# Altium integrated library IR Discrete MOSFET - Power.IntLib: 893 symbols (part 10 of 14)
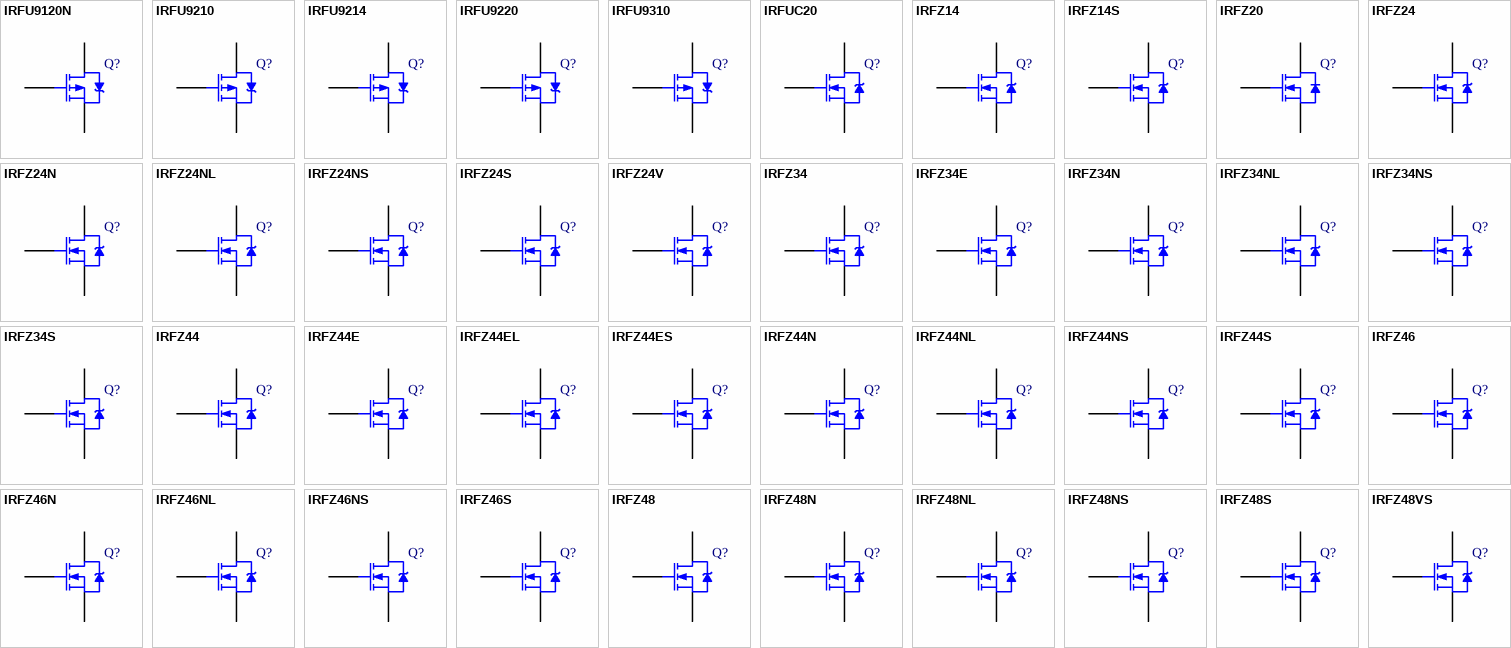
[diagram p32: symbols IRFU9120N to IRFZ48VS]

## IRFZ48N
designator Q?
HEXFET Power MOSFET; Note: Pin 2 is electrically connected to pin 4.; Published: 8-Jun-2000; LatestRevisionDate: 17-Jul-2002; LatestRevisionNote: Re-released for DXP Platform.; DatasheetVersion: Aug-1997; PackageVersion: Feb-1997; PackageReference: TO-220AB; Publisher: Altium Limited; PackageDescription: TO, Thru-Hole, Vertical, Heatsink Mounted; 3 In-Line Leads; Pitch 2.54 mm; ComponentLink1Description: Manufacturer Link; ComponentLink1URL: http://www.irf.com/; ComponentLink2Description: Datasheet; ComponentLink2URL: http://www.irf.com/product-info/datasheets/data/irfz48n.pdf
footprint TO-220AB (TO, Thru-Hole, Vertical, Heatsink Mounted; 3 In-Line Leads; Pitch 2.54 mm)
simulation model IRFZ48N (SUBCKT)
pins: 1 G, 2 D, 3 S

## IRFZ48NL
designator Q?
HEXFET Power MOSFET; Note: Pin 2 is electrically connected to pin 4.; Published: 8-Jun-2000; LatestRevisionDate: 17-Jul-2002; LatestRevisionNote: Re-released for DXP Platform.; DatasheetVersion: Aug-1997; PackageReference: TO-262; Publisher: Altium Limited; PackageDescription: TO, Thru-Hole, Vertical, Heatsink Mounted; 3 In-Line Leads; Pitch 2.54 mm; ComponentLink1Description: Manufacturer Link; ComponentLink1URL: http://www.irf.com/; ComponentLink2Description: Datasheet; ComponentLink2URL: http://www.irf.com/product-info/datasheets/data/irfz48ns.pdf
footprint TO-262 (TO, Thru-Hole, Vertical, Heatsink Mounted; 3 In-Line Leads; Pitch 2.54 mm)
pins: 1 G, 2 D, 3 S

## IRFZ48NS
designator Q?
HEXFET Power MOSFET; Published: 8-Jun-2000; LatestRevisionDate: 17-Jul-2002; LatestRevisionNote: Re-released for DXP Platform.; DatasheetVersion: Aug-1997; PackageReference: D2PAK; Publisher: Altium Limited; PackageDescription: D2-PAK/TO-263-AB; 3 Leads (1 Cropped); Body 15.5 (inc. leads) x 10.5 mm (LxW max); ComponentLink1Description: Manufacturer Link; ComponentLink1URL: http://www.irf.com/; ComponentLink2Description: Datasheet; ComponentLink2URL: http://www.irf.com/product-info/datasheets/data/irfz48ns.pdf
footprint D2PAK (D2-PAK/TO-263-AB; 3 Leads (1 Cropped); Body 15.5 (inc. leads) x 10.5 mm (LxW max))
simulation model IRFZ48NS (SUBCKT)
pins: 1 G, 2 D, 3 S

## IRFZ48S
designator Q?
HEXFET N-Channel Power MOSFET; Published: 8-Jun-2000; LatestRevisionDate: 17-Jul-2002; LatestRevisionNote: Re-released for DXP Platform.; DatasheetVersion: Aug-1997; PackageReference: D2PAK; Publisher: Altium Limited; PackageDescription: D2-PAK/TO-263-AB; 3 Leads (1 Cropped); Body 15.5 (inc. leads) x 10.5 mm (LxW max); ComponentLink1Description: Manufacturer Link; ComponentLink1URL: http://www.irf.com/; ComponentLink2Description: Datasheet; ComponentLink2URL: http://www.irf.com/product-info/datasheets/data/irfz48s.pdf
footprint D2PAK (D2-PAK/TO-263-AB; 3 Leads (1 Cropped); Body 15.5 (inc. leads) x 10.5 mm (LxW max))
simulation model IRFZ48S (SUBCKT)
pins: 1 G, 2 D, 3 S

## IRFZ48VS
designator Q?
HEXFET Power MOSFET; Published: 17-Sep-2003; DatasheetVersion: 18-May-2001; PackageReference: D2PAK; Publisher: Altium Limited; PackageDescription: D2-PAK/TO-263-AB; 3 Leads (1 Cropped); Body 15.5 (inc. leads) x 10.5 mm (LxW max); ComponentLink1Description: Manufacturer Link; ComponentLink1URL: http://www.irf.com/; ComponentLink2Description: Datasheet; ComponentLink2URL: http://www.irf.com/product-info/datasheets/data/irfz48vs.pdf
footprint D2PAK (D2-PAK/TO-263-AB; 3 Leads (1 Cropped); Body 15.5 (inc. leads) x 10.5 mm (LxW max))
simulation model IRFZ48VS (SUBCKT)
pins: 1 G, 2 D, 3 S

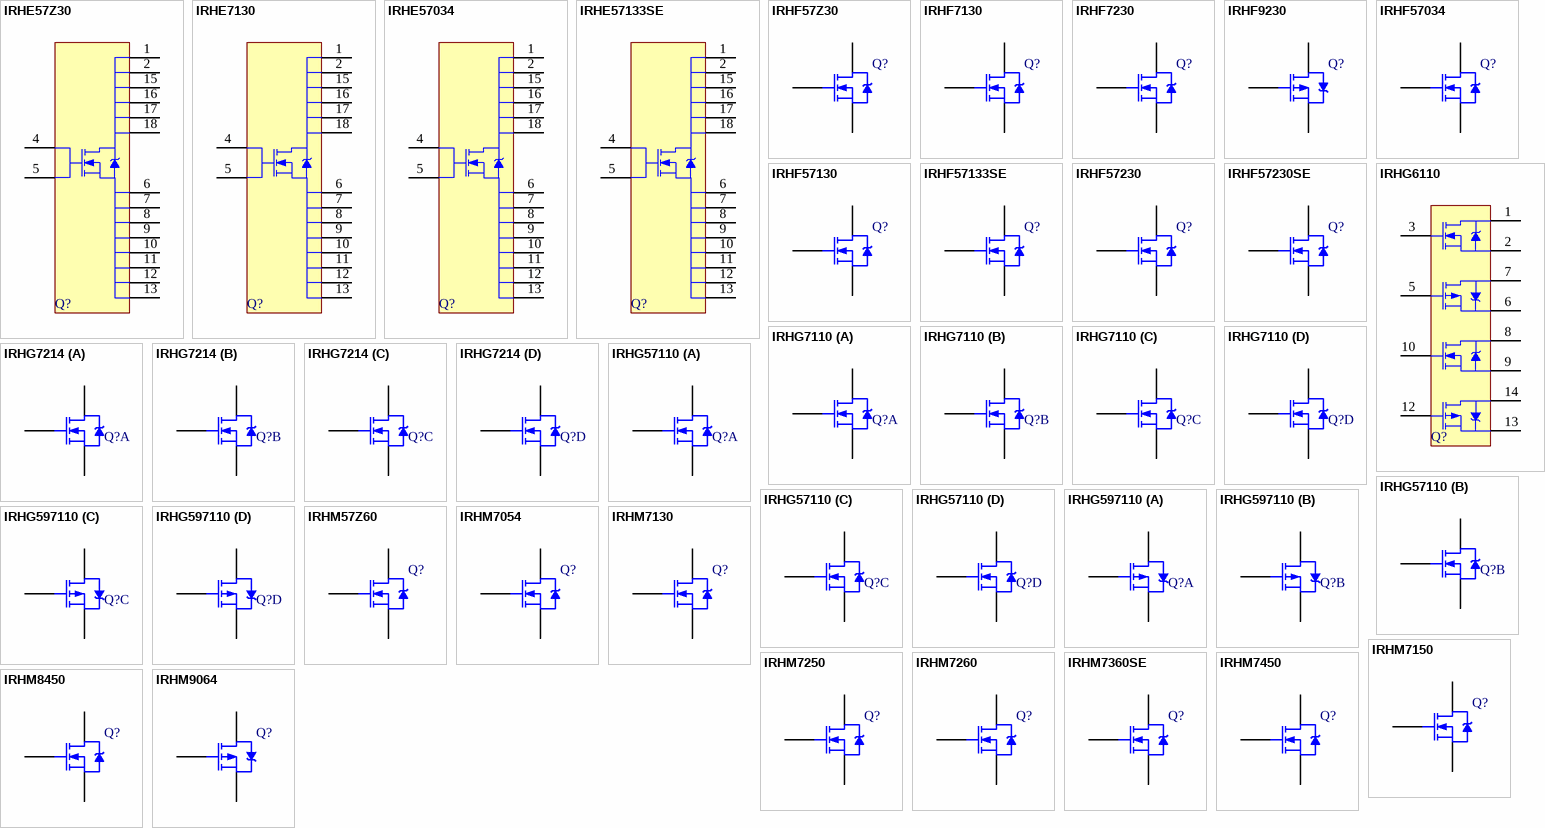
[diagram p16: symbols IRHE57Z30 to IRHM9064]

## IRHE57Z30
designator Q?
Radiation Hardened Power MOSFET; Note: Pins 3, 14 are NC pins and are not drawn.; PCB_Layout: Connecting fill between center pad and pads 11 & 12 narrower than specified. Adjust to suit.; Published: 17-Sep-2003; DatasheetVersion: 15-Jul-2002; PackageVersion: 16-Jan-2001; PackageReference: LCC-18; Publisher: Altium Limited; PackageDescription: Leadless Chip Carrier; 18 Terminals; Body 7.3 x 9 mm; ComponentLink1Description: Manufacturer Link; ComponentLink1URL: http://www.irf.com/; ComponentLink2Description: Datasheet; ComponentLink2URL: http://www.irf.com/product-info/datasheets/data/IRHE57Z30.pdf
footprint LCC-18 (Leadless Chip Carrier; 18 Terminals; Body 7.3 x 9 mm)
simulation model IRHE57Z30 (SUBCKT)
pins: 1 D, 2 D, 4 G, 5 G, 6 S, 7 S, 8 S, 9 S, 10 S, 11 S, 12 S, 13 S, 15 D, 16 D, 17 D, 18 D

## IRHE7130
designator Q?
Radiation Hardened HEXFET Power MOSFET; Note: Pins 3, 14 are NC pins and are not drawn.; PCB_Layout: Connecting fill between center pad and pads 11 & 12 narrower than specified. Adjust to suit.; Published: 17-Sep-2003; DatasheetVersion: 3-Jul-2001; PackageVersion: 16-Jan-2001; PackageReference: LCC-18; Publisher: Altium Limited; PackageDescription: Leadless Chip Carrier; 18 Terminals; Body 7.3 x 9 mm; ComponentLink1Description: Manufacturer Link; ComponentLink1URL: http://www.irf.com/; ComponentLink2Description: Datasheet; ComponentLink2URL: http://www.irf.com/product-info/datasheets/data/IRHE7130.pdf
footprint LCC-18 (Leadless Chip Carrier; 18 Terminals; Body 7.3 x 9 mm)
simulation model IRHE7130 (SUBCKT)
pins: 1 D, 2 D, 4 G, 5 G, 6 S, 7 S, 8 S, 9 S, 10 S, 11 S, 12 S, 13 S, 15 D, 16 D, 17 D, 18 D

## IRHE57034
designator Q?
Radiation Hardened Power MOSFET; Note: Pins 3, 14 are NC pins and are not drawn.; PCB_Layout: Connecting fill between center pad and pads 11 & 12 narrower than specified. Adjust to suit.; Published: 17-Sep-2003; DatasheetVersion: 15-Jul-2002; PackageVersion: 16-Jan-2001; PackageReference: LCC-18; Publisher: Altium Limited; PackageDescription: Leadless Chip Carrier; 18 Terminals; Body 7.3 x 9 mm; ComponentLink1Description: Manufacturer Link; ComponentLink1URL: http://www.irf.com/; ComponentLink2Description: Datasheet; ComponentLink2URL: http://www.irf.com/product-info/datasheets/data/IRHE57034.pdf
footprint LCC-18 (Leadless Chip Carrier; 18 Terminals; Body 7.3 x 9 mm)
simulation model IRHE57034 (SUBCKT)
pins: 1 D, 2 D, 4 G, 5 G, 6 S, 7 S, 8 S, 9 S, 10 S, 11 S, 12 S, 13 S, 15 D, 16 D, 17 D, 18 D

## IRHE57133SE
designator Q?
Radiation Hardened Power MOSFET; Note: Pins 3, 14 are NC pins and are not drawn.; PCB_Layout: Connecting fill between center pad and pads 11 & 12 narrower than specified. Adjust to suit.; Published: 17-Sep-2003; DatasheetVersion: 17-Oct-2001; PackageVersion: 16-Jan-2001; PackageReference: LCC-18; Publisher: Altium Limited; PackageDescription: Leadless Chip Carrier; 18 Terminals; Body 7.3 x 9 mm; ComponentLink1Description: Manufacturer Link; ComponentLink1URL: http://www.irf.com/; ComponentLink2Description: Datasheet; ComponentLink2URL: http://www.irf.com/product-info/datasheets/data/IRHE57133SE.pdf
footprint LCC-18 (Leadless Chip Carrier; 18 Terminals; Body 7.3 x 9 mm)
pins: 1 D, 2 D, 4 G, 5 G, 6 S, 7 S, 8 S, 9 S, 10 S, 11 S, 12 S, 13 S, 15 D, 16 D, 17 D, 18 D

## IRHF57Z30
designator Q?
Radiation Hardened Power MOSFET; Published: 17-Sep-2003; DatasheetVersion: 22-Jul-2002; PackageVersion: Feb-2001; PackageReference: TO-205AF; Publisher: Altium Limited; PackageDescription: Can; 3 Leads; Pin Circle Dia. 5.08 mm; Lead Dia. 0.48 mm (max); Code_JEDEC: TO-205-AF; ComponentLink1Description: Manufacturer Link; ComponentLink1URL: http://www.irf.com/; ComponentLink2Description: Datasheet; ComponentLink2URL: http://www.irf.com/product-info/datasheets/data/IRHF57Z30.pdf
footprint TO-205AF (Can; 3 Leads; Pin Circle Dia. 5.08 mm; Lead Dia. 0.48 mm (max))
simulation model IRHF57Z30 (SUBCKT)
pins: 1 S, 2 G, 3 D

## IRHF7130
designator Q?
Radiation Hardened HEXFET Power MOSFET; Published: 17-Sep-2003; DatasheetVersion: 10-Aug-2001; PackageVersion: Feb-2001; PackageReference: TO-205AF; Publisher: Altium Limited; PackageDescription: Can; 3 Leads; Pin Circle Dia. 5.08 mm; Lead Dia. 0.48 mm (max); Code_JEDEC: TO-205-AF; ComponentLink1Description: Manufacturer Link; ComponentLink1URL: http://www.irf.com/; ComponentLink2Description: Datasheet; ComponentLink2URL: http://www.irf.com/product-info/datasheets/data/IRHF7130.pdf
footprint TO-205AF (Can; 3 Leads; Pin Circle Dia. 5.08 mm; Lead Dia. 0.48 mm (max))
simulation model IRHF7130 (SUBCKT)
pins: 1 S, 2 G, 3 D

## IRHF7230
designator Q?
Radiation Hardened HEXFET Power MOSFET; Published: 17-Sep-2003; DatasheetVersion: 7-Mar-2001; PackageVersion: Mar-2001; PackageReference: TO-39; Publisher: Altium Limited; PackageDescription: Can; 3 Leads; Pin Circle Dia. 5.08 mm; Lead Dia. 0.48 mm (max); Code_JEDEC: TO-205-AF; ComponentLink1Description: Manufacturer Link; ComponentLink1URL: http://www.irf.com/; ComponentLink2Description: Datasheet; ComponentLink2URL: http://www.irf.com/product-info/datasheets/data/IRHF7230.pdf
footprint TO-39 (Can; 3 Leads; Pin Circle Dia. 5.08 mm; Lead Dia. 0.48 mm (max))
simulation model IRHF7230 (SUBCKT)
pins: 1 S, 2 G, 3 D

## IRHF9230
designator Q?
Radiation Hardened HEXFET Power MOSFET; Published: 17-Sep-2003; DatasheetVersion: 14-Jan-2002; PackageVersion: Feb-2001; PackageReference: TO-205AF; Publisher: Altium Limited; PackageDescription: Can; 3 Leads; Pin Circle Dia. 5.08 mm; Lead Dia. 0.48 mm (max); Code_JEDEC: TO-205-AF; ComponentLink1Description: Manufacturer Link; ComponentLink1URL: http://www.irf.com/; ComponentLink2Description: Datasheet; ComponentLink2URL: http://www.irf.com/product-info/datasheets/data/IRHF9230.pdf
footprint TO-205AF (Can; 3 Leads; Pin Circle Dia. 5.08 mm; Lead Dia. 0.48 mm (max))
simulation model IRHF9230 (SUBCKT)
pins: 1 S, 2 G, 3 D

## IRHF57034
designator Q?
Radiation Hardened Power MOSFET; Published: 17-Sep-2003; DatasheetVersion: 15-Jul-2002; PackageVersion: Feb-2001; PackageReference: TO-205AF; Publisher: Altium Limited; PackageDescription: Can; 3 Leads; Pin Circle Dia. 5.08 mm; Lead Dia. 0.48 mm (max); Code_JEDEC: TO-205-AF; ComponentLink1Description: Manufacturer Link; ComponentLink1URL: http://www.irf.com/; ComponentLink2Description: Datasheet; ComponentLink2URL: http://www.irf.com/product-info/datasheets/data/IRHF57034.pdf
footprint TO-205AF (Can; 3 Leads; Pin Circle Dia. 5.08 mm; Lead Dia. 0.48 mm (max))
simulation model IRHF57034 (SUBCKT)
pins: 1 S, 2 G, 3 D

## IRHF57130
designator Q?
Radiation Hardened Power MOSFET; Published: 17-Sep-2003; DatasheetVersion: 15-Jul-2002; PackageVersion: Feb-2001; PackageReference: TO-205AF; Publisher: Altium Limited; PackageDescription: Can; 3 Leads; Pin Circle Dia. 5.08 mm; Lead Dia. 0.48 mm (max); Code_JEDEC: TO-205-AF; ComponentLink1Description: Manufacturer Link; ComponentLink1URL: http://www.irf.com/; ComponentLink2Description: Datasheet; ComponentLink2URL: http://www.irf.com/product-info/datasheets/data/IRHF57130.pdf
footprint TO-205AF (Can; 3 Leads; Pin Circle Dia. 5.08 mm; Lead Dia. 0.48 mm (max))
simulation model IRHF57130 (SUBCKT)
pins: 1 S, 2 G, 3 D

## IRHF57133SE
designator Q?
Radiation Hardened Power MOSFET; Published: 17-Sep-2003; DatasheetVersion: 7-Jan-2002; PackageVersion: Feb-2001; PackageReference: TO-205AF; Publisher: Altium Limited; PackageDescription: Can; 3 Leads; Pin Circle Dia. 5.08 mm; Lead Dia. 0.48 mm (max); Code_JEDEC: TO-205-AF; ComponentLink1Description: Manufacturer Link; ComponentLink1URL: http://www.irf.com/; ComponentLink2Description: Datasheet; ComponentLink2URL: http://www.irf.com/product-info/datasheets/data/IRHF57133SE.pdf
footprint TO-205AF (Can; 3 Leads; Pin Circle Dia. 5.08 mm; Lead Dia. 0.48 mm (max))
pins: 1 S, 2 G, 3 D

## IRHF57230
designator Q?
Radiation Hardened Power MOSFET; Published: 17-Sep-2003; DatasheetVersion: 15-Jul-2002; PackageVersion: Feb-2001; PackageReference: TO-205AF; Publisher: Altium Limited; PackageDescription: Can; 3 Leads; Pin Circle Dia. 5.08 mm; Lead Dia. 0.48 mm (max); Code_JEDEC: TO-205-AF; ComponentLink1Description: Manufacturer Link; ComponentLink1URL: http://www.irf.com/; ComponentLink2Description: Datasheet; ComponentLink2URL: http://www.irf.com/product-info/datasheets/data/IRHF57230.pdf
footprint TO-205AF (Can; 3 Leads; Pin Circle Dia. 5.08 mm; Lead Dia. 0.48 mm (max))
simulation model IRHF57230 (SUBCKT)
pins: 1 S, 2 G, 3 D

## IRHF57230SE
designator Q?
Radiation Hardened Power MOSFET; Published: 17-Sep-2003; DatasheetVersion: 8-Dec-2000; PackageVersion: Feb-2001; PackageReference: TO-205AF; Publisher: Altium Limited; PackageDescription: Can; 3 Leads; Pin Circle Dia. 5.08 mm; Lead Dia. 0.48 mm (max); Code_JEDEC: TO-205-AF; ComponentLink1Description: Manufacturer Link; ComponentLink1URL: http://www.irf.com/; ComponentLink2Description: Datasheet; ComponentLink2URL: http://www.irf.com/product-info/datasheets/data/IRHF57230SE.pdf
footprint TO-205AF (Can; 3 Leads; Pin Circle Dia. 5.08 mm; Lead Dia. 0.48 mm (max))
pins: 1 S, 2 G, 3 D

## IRHG6110
designator Q?
Radiation Hardened HEXFET Power MOSFET; Note: Pins 4, 11 are NC pins and are not drawn.; Published: 17-Sep-2003; LatestRevisionDate: 04-Mar-2005; LatestRevisionNote: Stylized 3D Model Added.; DatasheetVersion: 17-Jul-2001; PackageVersion: Jul-2001; PackageReference: MO-036AB; Publisher: Altium Limited; PackageDescription: DIP; 14 Leads; Row Spacing 7.62 mm; Pitch 2.54 mm; Code_JEDEC: MO-036AB; ComponentLink1Description: Manufacturer Link; ComponentLink1URL: http://www.irf.com/; ComponentLink2Description: Datasheet; ComponentLink2URL: http://www.irf.com/product-info/datasheets/data/IRHG6110.pdf
footprint MO-036AB (DIP; 14 Leads; Row Spacing 7.62 mm; Pitch 2.54 mm)
3D model MO-036AB (DIP; 14 Leads; Row Spacing 7.62 mm; Pitch 2.54 mm)
simulation model IRHG6110 (SUBCKT)
pins: 1 D1, 2 S1, 3 G1, 5 G2, 6 S2, 7 D2, 8 D3, 9 S3, 10 G3, 12 G4, 13 S4, 14 D4

## IRHG7110
designator Q?
Radiation Hardened HEXFET Power MOSFET; Note: Pins 4, 11 are NC pins and are not drawn.; Published: 17-Sep-2003; LatestRevisionDate: 04-Mar-2005; LatestRevisionNote: Stylized 3D Model Added.; DatasheetVersion: 17-Jul-2001; PackageVersion: Jul-2001; PackageReference: MO-036AB; Publisher: Altium Limited; PackageDescription: DIP; 14 Leads; Row Spacing 7.62 mm; Pitch 2.54 mm; Code_JEDEC: MO-036AB; ComponentLink1Description: Manufacturer Link; ComponentLink1URL: http://www.irf.com/; ComponentLink2Description: Datasheet; ComponentLink2URL: http://www.irf.com/product-info/datasheets/data/IRFR18N15D.pdf
footprint MO-036AB (DIP; 14 Leads; Row Spacing 7.62 mm; Pitch 2.54 mm)
3D model MO-036AB (DIP; 14 Leads; Row Spacing 7.62 mm; Pitch 2.54 mm)
simulation model IRHG7110 (SUBCKT)
part A pins: 1 D, 2 S, 3 G
part B pins: 5 G, 6 S, 7 D
part C pins: 8 D, 9 S, 10 G
part D pins: 12 G, 13 S, 14 D

## IRHG7214
designator Q?
Radiation Hardened HEXFET Power MOSFET; Note: Pins 4, 11 are NC pins and are not drawn.; Published: 17-Sep-2003; LatestRevisionDate: 04-Mar-2005; LatestRevisionNote: Stylized 3D Model Added.; DatasheetVersion: 14-Aug-2001; PackageVersion: Jul-2001; PackageReference: MO-036AB; Publisher: Altium Limited; PackageDescription: DIP; 14 Leads; Row Spacing 7.62 mm; Pitch 2.54 mm; Code_JEDEC: MO-036AB; ComponentLink1Description: Manufacturer Link; ComponentLink1URL: http://www.irf.com/; ComponentLink2Description: Datasheet; ComponentLink2URL: http://www.irf.com/product-info/datasheets/data/IRFR2405.pdf
footprint MO-036AB (DIP; 14 Leads; Row Spacing 7.62 mm; Pitch 2.54 mm)
3D model MO-036AB (DIP; 14 Leads; Row Spacing 7.62 mm; Pitch 2.54 mm)
simulation model IRHG7214 (SUBCKT)
part A pins: 1 D, 2 S, 3 G
part B pins: 5 G, 6 S, 7 D
part C pins: 8 D, 9 S, 10 G
part D pins: 12 G, 13 S, 14 D

## IRHG57110
designator Q?
Radiation Hardened HEXFET Power MOSFET; Note: Pins 4, 11 are NC pins and are not drawn.; Published: 17-Sep-2003; LatestRevisionDate: 04-Mar-2005; LatestRevisionNote: Stylized 3D Model Added.; DatasheetVersion: Aug-2002; PackageVersion: Jul-2001; PackageReference: MO-036AB; Publisher: Altium Limited; PackageDescription: DIP; 14 Leads; Row Spacing 7.62 mm; Pitch 2.54 mm; Code_JEDEC: MO-036AB; ComponentLink1Description: Manufacturer Link; ComponentLink1URL: http://www.irf.com/; ComponentLink2Description: Datasheet; ComponentLink2URL: http://www.irf.com/product-info/datasheets/data/IRFR13N20D.pdf
footprint MO-036AB (DIP; 14 Leads; Row Spacing 7.62 mm; Pitch 2.54 mm)
3D model MO-036AB (DIP; 14 Leads; Row Spacing 7.62 mm; Pitch 2.54 mm)
simulation model IRHG57110 (SUBCKT)
part A pins: 1 D, 2 S, 3 G
part B pins: 5 G, 6 S, 7 D
part C pins: 8 D, 9 S, 10 G
part D pins: 12 G, 13 S, 14 D

## IRHG597110
designator Q?
Radiation Hardened HEXFET Power MOSFET; Note: Pins 4, 11 are NC pins and are not drawn.; Published: 17-Sep-2003; LatestRevisionDate: 04-Mar-2005; LatestRevisionNote: Stylized 3D Model Added.; DatasheetVersion: 15-Apr-2002; PackageVersion: Jul-2001; PackageReference: MO-036AB; Publisher: Altium Limited; PackageDescription: DIP; 14 Leads; Row Spacing 7.62 mm; Pitch 2.54 mm; Code_JEDEC: MO-036AB; ComponentLink1Description: Manufacturer Link; ComponentLink1URL: http://www.irf.com/; ComponentLink2Description: Datasheet; ComponentLink2URL: http://www.irf.com/product-info/datasheets/data/IRHG597110.pdf
footprint MO-036AB (DIP; 14 Leads; Row Spacing 7.62 mm; Pitch 2.54 mm)
3D model MO-036AB (DIP; 14 Leads; Row Spacing 7.62 mm; Pitch 2.54 mm)
simulation model IRHG597110 (SUBCKT)
part A pins: 1 D, 2 S, 3 G
part B pins: 5 G, 6 S, 7 D
part C pins: 8 D, 9 S, 10 G
part D pins: 12 G, 13 S, 14 D

## IRHM57Z60
designator Q?
Radiation Hardened Power MOSFET; Published: 17-Sep-2003; DatasheetVersion: 6-Aug-2002; PackageReference: TO-254AA; Publisher: Altium Limited; PackageDescription: TO, Thru-Hole, Vertical, Heatsink Mounted; 3 In-Line Leads; Pitch 3.81 mm; Code_JEDEC: TO-254-AA; ComponentLink1Description: Manufacturer Link; ComponentLink1URL: http://www.irf.com/; ComponentLink2Description: Datasheet; ComponentLink2URL: http://www.irf.com/product-info/datasheets/data/IRHM7360SE.pdf
footprint TO-254AA (TO, Thru-Hole, Vertical, Heatsink Mounted; 3 In-Line Leads; Pitch 3.81 mm)
simulation model IRHM57Z60 (SUBCKT)
pins: 1 D, 2 S, 3 G

## IRHM7054
designator Q?
Radiation Hardened HEXFET Power MOSFET; Published: 17-Sep-2003; DatasheetVersion: 9-Aug-2001; PackageReference: TO-254AA; Publisher: Altium Limited; PackageDescription: TO, Thru-Hole, Vertical, Heatsink Mounted; 3 In-Line Leads; Pitch 3.81 mm; Code_JEDEC: TO-254-AA; ComponentLink1Description: Manufacturer Link; ComponentLink1URL: http://www.irf.com/; ComponentLink2Description: Datasheet; ComponentLink2URL: http://www.irf.com/product-info/datasheets/data/IRHM7360SE.pdf
footprint TO-254AA (TO, Thru-Hole, Vertical, Heatsink Mounted; 3 In-Line Leads; Pitch 3.81 mm)
simulation model IRHM7054 (SUBCKT)
pins: 1 D, 2 S, 3 G

## IRHM7130
designator Q?
Radiation Hardened HEXFET Power MOSFET; Published: 17-Sep-2003; DatasheetVersion: 5-Jul-2001; PackageReference: TO-254AA; Publisher: Altium Limited; PackageDescription: TO, Thru-Hole, Vertical, Heatsink Mounted; 3 In-Line Leads; Pitch 3.81 mm; Code_JEDEC: TO-254-AA; ComponentLink1Description: Manufacturer Link; ComponentLink1URL: http://www.irf.com/; ComponentLink2Description: Datasheet; ComponentLink2URL: http://www.irf.com/product-info/datasheets/data/IRHM7450.pdf
footprint TO-254AA (TO, Thru-Hole, Vertical, Heatsink Mounted; 3 In-Line Leads; Pitch 3.81 mm)
simulation model IRHM7130 (SUBCKT)
pins: 1 D, 2 S, 3 G

## IRHM7150
designator Q?
Radiation Hardened HEXFET Power MOSFET; Published: 17-Sep-2003; DatasheetVersion: 14-Aug-2001; PackageReference: TO-254AA; Publisher: Altium Limited; PackageDescription: TO, Thru-Hole, Vertical, Heatsink Mounted; 3 In-Line Leads; Pitch 3.81 mm; Code_JEDEC: TO-254-AA; ComponentLink1Description: Manufacturer Link; ComponentLink1URL: http://www.irf.com/; ComponentLink2Description: Datasheet; ComponentLink2URL: http://www.irf.com/product-info/datasheets/data/IRHM7450.pdf
footprint TO-254AA (TO, Thru-Hole, Vertical, Heatsink Mounted; 3 In-Line Leads; Pitch 3.81 mm)
simulation model IRHM7150 (SUBCKT)
pins: 1 D, 2 S, 3 G

## IRHM7250
designator Q?
Radiation Hardened HEXFET Power MOSFET; Published: 17-Sep-2003; DatasheetVersion: 11-Oct-2000; PackageReference: TO-254AA; Publisher: Altium Limited; PackageDescription: TO, Thru-Hole, Vertical, Heatsink Mounted; 3 In-Line Leads; Pitch 3.81 mm; Code_JEDEC: TO-254-AA; ComponentLink1Description: Manufacturer Link; ComponentLink1URL: http://www.irf.com/; ComponentLink2Description: Datasheet; ComponentLink2URL: http://www.irf.com/product-info/datasheets/data/IRHY57130CM.pdf
footprint TO-254AA (TO, Thru-Hole, Vertical, Heatsink Mounted; 3 In-Line Leads; Pitch 3.81 mm)
simulation model IRHM7250 (SUBCKT)
pins: 1 D, 2 S, 3 G

## IRHM7260
designator Q?
Radiation Hardened HEXFET Power MOSFET; Published: 17-Sep-2003; DatasheetVersion: 14-Aug-2001; PackageReference: TO-254AA; Publisher: Altium Limited; PackageDescription: TO, Thru-Hole, Vertical, Heatsink Mounted; 3 In-Line Leads; Pitch 3.81 mm; Code_JEDEC: TO-254-AA; ComponentLink1Description: Manufacturer Link; ComponentLink1URL: http://www.irf.com/; ComponentLink2Description: Datasheet; ComponentLink2URL: http://www.irf.com/product-info/datasheets/data/IRHY57230CM.pdf
footprint TO-254AA (TO, Thru-Hole, Vertical, Heatsink Mounted; 3 In-Line Leads; Pitch 3.81 mm)
simulation model IRHM7260 (SUBCKT)
pins: 1 D, 2 S, 3 G

## IRHM7360SE
designator Q?
Radiation Hardened HEXFET Power MOSFET; Published: 17-Sep-2003; DatasheetVersion: 17-May-2001; PackageReference: TO-254AA; Publisher: Altium Limited; PackageDescription: TO, Thru-Hole, Vertical, Heatsink Mounted; 3 In-Line Leads; Pitch 3.81 mm; Code_JEDEC: TO-254-AA; ComponentLink1Description: Manufacturer Link; ComponentLink1URL: http://www.irf.com/; ComponentLink2Description: Datasheet; ComponentLink2URL: http://www.irf.com/product-info/datasheets/data/IRHY57234CMSE.pdf
footprint TO-254AA (TO, Thru-Hole, Vertical, Heatsink Mounted; 3 In-Line Leads; Pitch 3.81 mm)
simulation model IRHM7360SE (SUBCKT)
pins: 1 D, 2 S, 3 G

## IRHM7450
designator Q?
Radiation Hardened HEXFET Power MOSFET; Published: 17-Sep-2003; DatasheetVersion: Feb-1999; PackageReference: TO-254AA; Publisher: Altium Limited; PackageDescription: TO, Thru-Hole, Vertical, Heatsink Mounted; 3 In-Line Leads; Pitch 3.81 mm; Code_JEDEC: TO-254-AA; ComponentLink1Description: Manufacturer Link; ComponentLink1URL: http://www.irf.com/; ComponentLink2Description: Datasheet; ComponentLink2URL: http://www.irf.com/product-info/datasheets/data/IRHY7130CM.pdf
footprint TO-254AA (TO, Thru-Hole, Vertical, Heatsink Mounted; 3 In-Line Leads; Pitch 3.81 mm)
simulation model IRHM7450 (SUBCKT)
pins: 1 D, 2 S, 3 G

## IRHM8450
designator Q?
Radiation Hardened HEXFET Power MOSFET; Published: 17-Sep-2003; DatasheetVersion: Feb-1999; PackageReference: TO-254AA; Publisher: Altium Limited; PackageDescription: TO, Thru-Hole, Vertical, Heatsink Mounted; 3 In-Line Leads; Pitch 3.81 mm; Code_JEDEC: TO-254-AA; ComponentLink1Description: Manufacturer Link; ComponentLink1URL: http://www.irf.com/; ComponentLink2Description: Datasheet; ComponentLink2URL: http://www.irf.com/product-info/datasheets/data/IRHY7130CM.pdf
footprint TO-254AA (TO, Thru-Hole, Vertical, Heatsink Mounted; 3 In-Line Leads; Pitch 3.81 mm)
pins: 1 D, 2 S, 3 G

## IRHM9064
designator Q?
Radiation Hardened HEXFET Power MOSFET; Published: 17-Sep-2003; DatasheetVersion: 14-Jan-2002; PackageReference: TO-254AA; Publisher: Altium Limited; PackageDescription: TO, Thru-Hole, Vertical, Heatsink Mounted; 3 In-Line Leads; Pitch 3.81 mm; Code_JEDEC: TO-254-AA; ComponentLink1Description: Manufacturer Link; ComponentLink1URL: http://www.irf.com/; ComponentLink2Description: Datasheet; ComponentLink2URL: http://www.irf.com/product-info/datasheets/data/IRHM9064.pdf
footprint TO-254AA (TO, Thru-Hole, Vertical, Heatsink Mounted; 3 In-Line Leads; Pitch 3.81 mm)
simulation model IRHM9064 (SUBCKT)
pins: 1 D, 2 S, 3 G

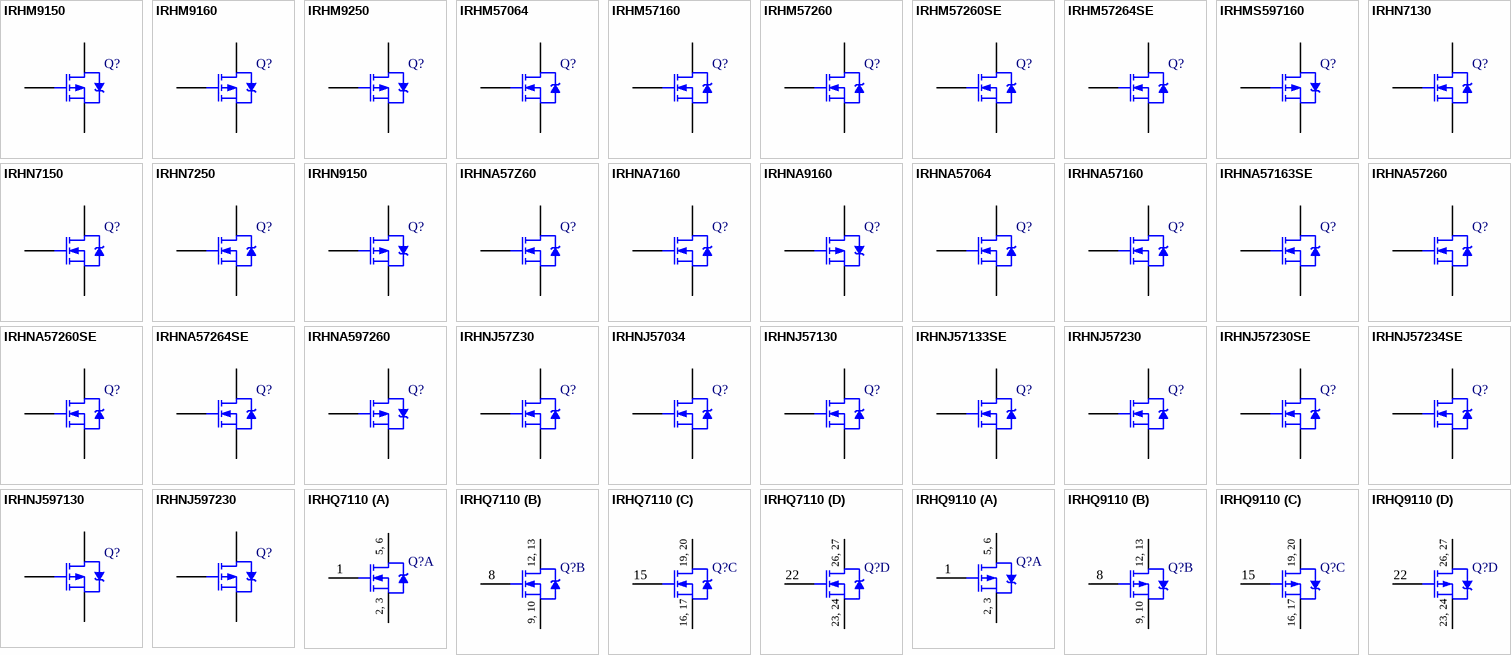
[diagram p17: symbols IRHM9150 to IRHQ9110]

## IRHM9150
designator Q?
Radiation Hardened HEXFET Power MOSFET; Published: 17-Sep-2003; DatasheetVersion: 6-Dec-2001; PackageReference: TO-254AA; Publisher: Altium Limited; PackageDescription: TO, Thru-Hole, Vertical, Heatsink Mounted; 3 In-Line Leads; Pitch 3.81 mm; Code_JEDEC: TO-254-AA; ComponentLink1Description: Manufacturer Link; ComponentLink1URL: http://www.irf.com/; ComponentLink2Description: Datasheet; ComponentLink2URL: http://www.irf.com/product-info/datasheets/data/IRHM9150.pdf
footprint TO-254AA (TO, Thru-Hole, Vertical, Heatsink Mounted; 3 In-Line Leads; Pitch 3.81 mm)
simulation model IRHM9150 (SUBCKT)
pins: 1 D, 2 S, 3 G

## IRHM9160
designator Q?
Radiation Hardened HEXFET Power MOSFET; Published: 17-Sep-2003; DatasheetVersion: 20-Dec-2001; PackageReference: TO-254AA; Publisher: Altium Limited; PackageDescription: TO, Thru-Hole, Vertical, Heatsink Mounted; 3 In-Line Leads; Pitch 3.81 mm; Code_JEDEC: TO-254-AA; ComponentLink1Description: Manufacturer Link; ComponentLink1URL: http://www.irf.com/; ComponentLink2Description: Datasheet; ComponentLink2URL: http://www.irf.com/product-info/datasheets/data/IRHM9160.pdf
footprint TO-254AA (TO, Thru-Hole, Vertical, Heatsink Mounted; 3 In-Line Leads; Pitch 3.81 mm)
simulation model IRHM9160 (SUBCKT)
pins: 1 D, 2 S, 3 G

## IRHM9250
designator Q?
Radiation Hardened HEXFET Power MOSFET; Published: 17-Sep-2003; DatasheetVersion: 29-Jan-2002; PackageReference: TO-254AA; Publisher: Altium Limited; PackageDescription: TO, Thru-Hole, Vertical, Heatsink Mounted; 3 In-Line Leads; Pitch 3.81 mm; Code_JEDEC: TO-254-AA; ComponentLink1Description: Manufacturer Link; ComponentLink1URL: http://www.irf.com/; ComponentLink2Description: Datasheet; ComponentLink2URL: http://www.irf.com/product-info/datasheets/data/IRHM9250.pdf
footprint TO-254AA (TO, Thru-Hole, Vertical, Heatsink Mounted; 3 In-Line Leads; Pitch 3.81 mm)
simulation model IRHM9250 (SUBCKT)
pins: 1 D, 2 S, 3 G

## IRHM57064
designator Q?
Radiation Hardened Power MOSFET; Published: 17-Sep-2003; DatasheetVersion: 6-Aug-2002; PackageReference: TO-254AA; Publisher: Altium Limited; PackageDescription: TO, Thru-Hole, Vertical, Heatsink Mounted; 3 In-Line Leads; Pitch 3.81 mm; Code_JEDEC: TO-254-AA; ComponentLink1Description: Manufacturer Link; ComponentLink1URL: http://www.irf.com/; ComponentLink2Description: Datasheet; ComponentLink2URL: http://www.irf.com/product-info/datasheets/data/IRHM7150.pdf
footprint TO-254AA (TO, Thru-Hole, Vertical, Heatsink Mounted; 3 In-Line Leads; Pitch 3.81 mm)
simulation model IRHM57064 (SUBCKT)
pins: 1 D, 2 S, 3 G

## IRHM57160
designator Q?
Radiation Hardened Power MOSFET; Published: 17-Sep-2003; DatasheetVersion: 7-Aug-2002; PackageReference: TO-254AA; Publisher: Altium Limited; PackageDescription: TO, Thru-Hole, Vertical, Heatsink Mounted; 3 In-Line Leads; Pitch 3.81 mm; Code_JEDEC: TO-254-AA; ComponentLink1Description: Manufacturer Link; ComponentLink1URL: http://www.irf.com/; ComponentLink2Description: Datasheet; ComponentLink2URL: http://www.irf.com/product-info/datasheets/data/IRHM7250.pdf
footprint TO-254AA (TO, Thru-Hole, Vertical, Heatsink Mounted; 3 In-Line Leads; Pitch 3.81 mm)
simulation model IRHM57160 (SUBCKT)
pins: 1 D, 2 S, 3 G

## IRHM57260
designator Q?
Radiation Hardened Power MOSFET; Published: 17-Sep-2003; DatasheetVersion: 7-Aug-2002; PackageReference: TO-254AA; Publisher: Altium Limited; PackageDescription: TO, Thru-Hole, Vertical, Heatsink Mounted; 3 In-Line Leads; Pitch 3.81 mm; Code_JEDEC: TO-254-AA; ComponentLink1Description: Manufacturer Link; ComponentLink1URL: http://www.irf.com/; ComponentLink2Description: Datasheet; ComponentLink2URL: http://www.irf.com/product-info/datasheets/data/IRHM7250.pdf
footprint TO-254AA (TO, Thru-Hole, Vertical, Heatsink Mounted; 3 In-Line Leads; Pitch 3.81 mm)
simulation model IRHM57260 (SUBCKT)
pins: 1 D, 2 S, 3 G

## IRHM57260SE
designator Q?
Radiation Hardened Power MOSFET; Published: 17-Sep-2003; DatasheetVersion: 21-Aug-2001; PackageReference: TO-254AA; Publisher: Altium Limited; PackageDescription: TO, Thru-Hole, Vertical, Heatsink Mounted; 3 In-Line Leads; Pitch 3.81 mm; Code_JEDEC: TO-254-AA; ComponentLink1Description: Manufacturer Link; ComponentLink1URL: http://www.irf.com/; ComponentLink2Description: Datasheet; ComponentLink2URL: http://www.irf.com/product-info/datasheets/data/IRHM7260.pdf
footprint TO-254AA (TO, Thru-Hole, Vertical, Heatsink Mounted; 3 In-Line Leads; Pitch 3.81 mm)
pins: 1 D, 2 S, 3 G

## IRHM57264SE
designator Q?
Radiation Hardened Power MOSFET; Published: 17-Sep-2003; DatasheetVersion: 2-Mar-2000; PackageReference: TO-254AA; Publisher: Altium Limited; PackageDescription: TO, Thru-Hole, Vertical, Heatsink Mounted; 3 In-Line Leads; Pitch 3.81 mm; Code_JEDEC: TO-254-AA; ComponentLink1Description: Manufacturer Link; ComponentLink1URL: http://www.irf.com/; ComponentLink2Description: Datasheet; ComponentLink2URL: http://www.irf.com/product-info/datasheets/data/IRHM7260.pdf
footprint TO-254AA (TO, Thru-Hole, Vertical, Heatsink Mounted; 3 In-Line Leads; Pitch 3.81 mm)
pins: 1 D, 2 S, 3 G

## IRHMS597160
designator Q?
Radiation Hardened Power MOSFET; Published: 17-Sep-2003; DatasheetVersion: 5-Aug-2002; PackageReference: TO-254AA; Publisher: Altium Limited; PackageDescription: TO, Thru-Hole, Vertical, Heatsink Mounted; 3 In-Line Leads; Pitch 3.81 mm; Code_JEDEC: TO-254-AA; ComponentLink1Description: Manufacturer Link; ComponentLink1URL: http://www.irf.com/; ComponentLink2Description: Datasheet; ComponentLink2URL: http://www.irf.com/product-info/datasheets/data/IRHMS597160.pdf
footprint TO-254AA (TO, Thru-Hole, Vertical, Heatsink Mounted; 3 In-Line Leads; Pitch 3.81 mm)
simulation model IRHMS597160 (SUBCKT)
pins: 1 D, 2 S, 3 G

## IRHN7130
designator Q?
Radiation Hardened HEXFET Power MOSFET; Published: 17-Sep-2003; DatasheetVersion: 13-Aug-2001; PackageVersion: 10-Jul-2001; PackageReference: SMD-1; Publisher: Altium Limited; PackageDescription: SM; 3 Leadless Terminals; Body 16 x 11.55 x 3.58 mm (LxWxH); ComponentLink1Description: Manufacturer Link; ComponentLink1URL: http://www.irf.com/; ComponentLink2Description: Datasheet; ComponentLink2URL: http://www.irf.com/product-info/datasheets/data/IRHN7130.pdf
footprint SMD-1 (SM; 3 Leadless Terminals; Body 16 x 11.55 x 3.58 mm (LxWxH))
pins: 1 D, 2 G, 3 S

## IRHN7150
designator Q?
Radiation Hardened HEXFET Power MOSFET; Published: 17-Sep-2003; DatasheetVersion: Feb-2001; PackageVersion: 10-Jul-2001; PackageReference: SMD-1; Publisher: Altium Limited; PackageDescription: SM; 3 Leadless Terminals; Body 16 x 11.55 x 3.58 mm (LxWxH); ComponentLink1Description: Manufacturer Link; ComponentLink1URL: http://www.irf.com/; ComponentLink2Description: Datasheet; ComponentLink2URL: http://www.irf.com/product-info/datasheets/data/IRHN7150.pdf
footprint SMD-1 (SM; 3 Leadless Terminals; Body 16 x 11.55 x 3.58 mm (LxWxH))
pins: 1 D, 2 G, 3 S

## IRHN7250
designator Q?
Radiation Hardened HEXFET Power MOSFET; Published: 17-Sep-2003; DatasheetVersion: 17-Dec-2001; PackageVersion: 10-Jul-2001; PackageReference: SMD-1; Publisher: Altium Limited; PackageDescription: SM; 3 Leadless Terminals; Body 16 x 11.55 x 3.58 mm (LxWxH); ComponentLink1Description: Manufacturer Link; ComponentLink1URL: http://www.irf.com/; ComponentLink2Description: Datasheet; ComponentLink2URL: http://www.irf.com/product-info/datasheets/data/IRHNA57Z60.pdf
footprint SMD-1 (SM; 3 Leadless Terminals; Body 16 x 11.55 x 3.58 mm (LxWxH))
pins: 1 D, 2 G, 3 S

## IRHN9150
designator Q?
Radiation Hardened HEXFET Power MOSFET; Published: 17-Sep-2003; DatasheetVersion: 29-Jan-2001; PackageVersion: 10-Jul-2001; PackageReference: SMD-1; Publisher: Altium Limited; PackageDescription: SM; 3 Leadless Terminals; Body 16 x 11.55 x 3.58 mm (LxWxH); ComponentLink1Description: Manufacturer Link; ComponentLink1URL: http://www.irf.com/; ComponentLink2Description: Datasheet; ComponentLink2URL: http://www.irf.com/product-info/datasheets/data/IRHN9150.pdf
footprint SMD-1 (SM; 3 Leadless Terminals; Body 16 x 11.55 x 3.58 mm (LxWxH))
simulation model IRHN9150 (SUBCKT)
pins: 1 D, 2 G, 3 S

## IRHNA57Z60
designator Q?
Radiation Hardened Power MOSFET; Published: 17-Sep-2003; DatasheetVersion: 24-Jul-2002; PackageVersion: 18-Feb-02; PackageReference: SMD-2; Publisher: Altium Limited; PackageDescription: SM; 3 Leadless Terminals; Body 17.65 x 13.46 x 3.58 mm (LxWxH); ComponentLink1Description: Manufacturer Link; ComponentLink1URL: http://www.irf.com/; ComponentLink2Description: Datasheet; ComponentLink2URL: http://www.irf.com/product-info/datasheets/data/irhnj57z30.pdf
footprint SMD-2 (SM; 3 Leadless Terminals; Body 17.65 x 13.46 x 3.58 mm (LxWxH))
simulation model IRHNA57Z60 (SUBCKT)
pins: 1 D, 2 G, 3 S

## IRHNA7160
designator Q?
Radiation Hardened HEXFET Power MOSFET; Published: 17-Sep-2003; DatasheetVersion: 4-May-2000; PackageVersion: 18-Feb-02; PackageReference: SMD-2; Publisher: Altium Limited; PackageDescription: SM; 3 Leadless Terminals; Body 17.65 x 13.46 x 3.58 mm (LxWxH); ComponentLink1Description: Manufacturer Link; ComponentLink1URL: http://www.irf.com/; ComponentLink2Description: Datasheet; ComponentLink2URL: http://www.irf.com/product-info/datasheets/data/IRL5NJ7413.pdf
footprint SMD-2 (SM; 3 Leadless Terminals; Body 17.65 x 13.46 x 3.58 mm (LxWxH))
simulation model IRHNA7160 (SUBCKT)
pins: 1 D, 2 G, 3 S

## IRHNA9160
designator Q?
Radiation Hardened HEXFET Power MOSFET; Published: 17-Sep-2003; DatasheetVersion: 29-Jan-2001; PackageVersion: 18-Feb-02; PackageReference: SMD-2; Publisher: Altium Limited; PackageDescription: SM; 3 Leadless Terminals; Body 17.65 x 13.46 x 3.58 mm (LxWxH); ComponentLink1Description: Manufacturer Link; ComponentLink1URL: http://www.irf.com/; ComponentLink2Description: Datasheet; ComponentLink2URL: http://www.irf.com/product-info/datasheets/data/IRHNA9160.pdf
footprint SMD-2 (SM; 3 Leadless Terminals; Body 17.65 x 13.46 x 3.58 mm (LxWxH))
simulation model IRHNA9160 (SUBCKT)
pins: 1 D, 2 G, 3 S

## IRHNA57064
designator Q?
Radiation Hardened Power MOSFET; Published: 17-Sep-2003; DatasheetVersion: 24-Jul-2002; PackageVersion: 18-Feb-02; PackageReference: SMD-2; Publisher: Altium Limited; PackageDescription: SM; 3 Leadless Terminals; Body 17.65 x 13.46 x 3.58 mm (LxWxH); ComponentLink1Description: Manufacturer Link; ComponentLink1URL: http://www.irf.com/; ComponentLink2Description: Datasheet; ComponentLink2URL: http://www.irf.com/product-info/datasheets/data/irhna57064.pdf
footprint SMD-2 (SM; 3 Leadless Terminals; Body 17.65 x 13.46 x 3.58 mm (LxWxH))
pins: 1 D, 2 G, 3 S

## IRHNA57160
designator Q?
Radiation Hardened Power MOSFET; Published: 17-Sep-2003; DatasheetVersion: 24-Jul-2002; PackageVersion: 18-Feb-02; PackageReference: SMD-2; Publisher: Altium Limited; PackageDescription: SM; 3 Leadless Terminals; Body 17.65 x 13.46 x 3.58 mm (LxWxH); ComponentLink1Description: Manufacturer Link; ComponentLink1URL: http://www.irf.com/; ComponentLink2Description: Datasheet; ComponentLink2URL: http://www.irf.com/product-info/datasheets/data/IRHNJ57130.pdf
footprint SMD-2 (SM; 3 Leadless Terminals; Body 17.65 x 13.46 x 3.58 mm (LxWxH))
pins: 1 D, 2 G, 3 S

## IRHNA57163SE
designator Q?
Radiation Hardened Power MOSFET; Published: 17-Sep-2003; DatasheetVersion: 8-Aug-2001; PackageVersion: 18-Feb-02; PackageReference: SMD-2; Publisher: Altium Limited; PackageDescription: SM; 3 Leadless Terminals; Body 17.65 x 13.46 x 3.58 mm (LxWxH); ComponentLink1Description: Manufacturer Link; ComponentLink1URL: http://www.irf.com/; ComponentLink2Description: Datasheet; ComponentLink2URL: http://www.irf.com/product-info/datasheets/data/IRHNJ57133SE.pdf
footprint SMD-2 (SM; 3 Leadless Terminals; Body 17.65 x 13.46 x 3.58 mm (LxWxH))
simulation model IRHNA57163SE (SUBCKT)
pins: 1 D, 2 G, 3 S

## IRHNA57260
designator Q?
Radiation Hardened Power MOSFET; Published: 17-Sep-2003; DatasheetVersion: 24-Jul-2002; PackageVersion: 18-Feb-02; PackageReference: SMD-2; Publisher: Altium Limited; PackageDescription: SM; 3 Leadless Terminals; Body 17.65 x 13.46 x 3.58 mm (LxWxH); ComponentLink1Description: Manufacturer Link; ComponentLink1URL: http://www.irf.com/; ComponentLink2Description: Datasheet; ComponentLink2URL: http://www.irf.com/product-info/datasheets/data/IRHNJ57230.pdf
footprint SMD-2 (SM; 3 Leadless Terminals; Body 17.65 x 13.46 x 3.58 mm (LxWxH))
pins: 1 D, 2 G, 3 S

## IRHNA57260SE
designator Q?
Radiation Hardened Power MOSFET; Published: 17-Sep-2003; DatasheetVersion: 22-May-2002; PackageVersion: 18-Feb-02; PackageReference: SMD-2; Publisher: Altium Limited; PackageDescription: SM; 3 Leadless Terminals; Body 17.65 x 13.46 x 3.58 mm (LxWxH); ComponentLink1Description: Manufacturer Link; ComponentLink1URL: http://www.irf.com/; ComponentLink2Description: Datasheet; ComponentLink2URL: http://www.irf.com/product-info/datasheets/data/irhnj57230se.pdf
footprint SMD-2 (SM; 3 Leadless Terminals; Body 17.65 x 13.46 x 3.58 mm (LxWxH))
pins: 1 D, 2 G, 3 S

## IRHNA57264SE
designator Q?
Radiation Hardened Power MOSFET; Published: 17-Sep-2003; DatasheetVersion: 9-Jul-2001; PackageVersion: 18-Feb-02; PackageReference: SMD-2; Publisher: Altium Limited; PackageDescription: SM; 3 Leadless Terminals; Body 17.65 x 13.46 x 3.58 mm (LxWxH); ComponentLink1Description: Manufacturer Link; ComponentLink1URL: http://www.irf.com/; ComponentLink2Description: Datasheet; ComponentLink2URL: http://www.irf.com/product-info/datasheets/data/IRHNJ57234SE.pdf
footprint SMD-2 (SM; 3 Leadless Terminals; Body 17.65 x 13.46 x 3.58 mm (LxWxH))
pins: 1 D, 2 G, 3 S

## IRHNA597260
designator Q?
Radiation Hardened Power MOSFET; Published: 17-Sep-2003; DatasheetVersion: 7-Aug-2001; PackageVersion: 18-Feb-02; PackageReference: SMD-2; Publisher: Altium Limited; PackageDescription: SM; 3 Leadless Terminals; Body 17.65 x 13.46 x 3.58 mm (LxWxH); ComponentLink1Description: Manufacturer Link; ComponentLink1URL: http://www.irf.com/; ComponentLink2Description: Datasheet; ComponentLink2URL: http://www.irf.com/product-info/datasheets/data/IRHNA597260.pdf
footprint SMD-2 (SM; 3 Leadless Terminals; Body 17.65 x 13.46 x 3.58 mm (LxWxH))
simulation model IRHNA597260 (SUBCKT)
pins: 1 D, 2 G, 3 S

## IRHNJ57Z30
designator Q?
Radiation Hardened Power MOSFET; Published: 17-Sep-2003; DatasheetVersion: 30-Jul-2002; PackageVersion: 16-Sep-2002; PackageReference: SMD-0.5; Publisher: Altium Limited; PackageDescription: SM; 3 Leadless Terminals; Body 10.28 x 7.64 x 3.06 mm (LxWxH); ComponentLink1Description: Manufacturer Link; ComponentLink1URL: http://www.irf.com/; ComponentLink2Description: Datasheet; ComponentLink2URL: http://www.irf.com/product-info/datasheets/data/IRFM140.pdf
footprint SMD-0.5 (SM; 3 Leadless Terminals; Body 10.28 x 7.64 x 3.06 mm (LxWxH))
pins: 1 D, 2 G, 3 S

## IRHNJ57034
designator Q?
Radiation Hardened Power MOSFET; Published: 17-Sep-2003; DatasheetVersion: 22-Jul-2002; PackageVersion: 16-Sep-2002; PackageReference: SMD-0.5; Publisher: Altium Limited; PackageDescription: SM; 3 Leadless Terminals; Body 10.28 x 7.64 x 3.06 mm (LxWxH); ComponentLink1Description: Manufacturer Link; ComponentLink1URL: http://www.irf.com/; ComponentLink2Description: Datasheet; ComponentLink2URL: http://www.irf.com/product-info/datasheets/data/IRL7N1404.pdf
footprint SMD-0.5 (SM; 3 Leadless Terminals; Body 10.28 x 7.64 x 3.06 mm (LxWxH))
simulation model IRHNJ57034 (SUBCKT)
pins: 1 D, 2 G, 3 S

## IRHNJ57130
designator Q?
Radiation Hardened Power MOSFET; Published: 17-Sep-2003; DatasheetVersion: 22-Jul-2002; PackageVersion: 16-Sep-2002; PackageReference: SMD-0.5; Publisher: Altium Limited; PackageDescription: SM; 3 Leadless Terminals; Body 10.28 x 7.64 x 3.06 mm (LxWxH); ComponentLink1Description: Manufacturer Link; ComponentLink1URL: http://www.irf.com/; ComponentLink2Description: Datasheet; ComponentLink2URL: http://www.irf.com/product-info/datasheets/data/IRHSNA57064.pdf
footprint SMD-0.5 (SM; 3 Leadless Terminals; Body 10.28 x 7.64 x 3.06 mm (LxWxH))
simulation model IRHNJ57130 (SUBCKT)
pins: 1 D, 2 G, 3 S

## IRHNJ57133SE
designator Q?
Radiation Hardened Power MOSFET; Published: 17-Sep-2003; DatasheetVersion: 3-Oct-2001; PackageVersion: 16-Sep-2002; PackageReference: SMD-0.5; Publisher: Altium Limited; PackageDescription: SM; 3 Leadless Terminals; Body 10.28 x 7.64 x 3.06 mm (LxWxH); ComponentLink1Description: Manufacturer Link; ComponentLink1URL: http://www.irf.com/; ComponentLink2Description: Datasheet; ComponentLink2URL: http://www.irf.com/product-info/datasheets/data/IRHSNA57Z60.pdf
footprint SMD-0.5 (SM; 3 Leadless Terminals; Body 10.28 x 7.64 x 3.06 mm (LxWxH))
pins: 1 D, 2 G, 3 S

## IRHNJ57230
designator Q?
Radiation Hardened Power MOSFET; Published: 17-Sep-2003; DatasheetVersion: 22-Jul-2002; PackageVersion: 16-Sep-2002; PackageReference: SMD-0.5; Publisher: Altium Limited; PackageDescription: SM; 3 Leadless Terminals; Body 10.28 x 7.64 x 3.06 mm (LxWxH); ComponentLink1Description: Manufacturer Link; ComponentLink1URL: http://www.irf.com/; ComponentLink2Description: Datasheet; ComponentLink2URL: http://www.irf.com/product-info/datasheets/data/IRFM064.pdf
footprint SMD-0.5 (SM; 3 Leadless Terminals; Body 10.28 x 7.64 x 3.06 mm (LxWxH))
pins: 1 D, 2 G, 3 S

## IRHNJ57230SE
designator Q?
Radiation Hardened Power MOSFET; Published: 17-Sep-2003; DatasheetVersion: 19-Apr-2001; PackageVersion: 16-Sep-2002; PackageReference: SMD-0.5; Publisher: Altium Limited; PackageDescription: SM; 3 Leadless Terminals; Body 10.28 x 7.64 x 3.06 mm (LxWxH); ComponentLink1Description: Manufacturer Link; ComponentLink1URL: http://www.irf.com/; ComponentLink2Description: Datasheet; ComponentLink2URL: http://www.irf.com/product-info/datasheets/data/IRFM140.pdf
footprint SMD-0.5 (SM; 3 Leadless Terminals; Body 10.28 x 7.64 x 3.06 mm (LxWxH))
pins: 1 D, 2 G, 3 S

## IRHNJ57234SE
designator Q?
Radiation Hardened Power MOSFET; Published: 17-Sep-2003; DatasheetVersion: 9-Feb-2000; PackageVersion: 16-Sep-2002; PackageReference: SMD-0.5; Publisher: Altium Limited; PackageDescription: SM; 3 Leadless Terminals; Body 10.28 x 7.64 x 3.06 mm (LxWxH); ComponentLink1Description: Manufacturer Link; ComponentLink1URL: http://www.irf.com/; ComponentLink2Description: Datasheet; ComponentLink2URL: http://www.irf.com/product-info/datasheets/data/IRFM140.pdf
footprint SMD-0.5 (SM; 3 Leadless Terminals; Body 10.28 x 7.64 x 3.06 mm (LxWxH))
pins: 1 D, 2 G, 3 S

## IRHNJ597130
designator Q?
Radiation Hardened Power MOSFET; Published: 17-Sep-2003; DatasheetVersion: Oct-2001; PackageVersion: 16-Sep-2002; PackageReference: SMD-0.5; Publisher: Altium Limited; PackageDescription: SM; 3 Leadless Terminals; Body 10.28 x 7.64 x 3.06 mm (LxWxH); ComponentLink1Description: Manufacturer Link; ComponentLink1URL: http://www.irf.com/; ComponentLink2Description: Datasheet; ComponentLink2URL: http://www.irf.com/product-info/datasheets/data/IRHNJ597130.pdf
footprint SMD-0.5 (SM; 3 Leadless Terminals; Body 10.28 x 7.64 x 3.06 mm (LxWxH))
pins: 1 D, 2 G, 3 S

## IRHNJ597230
designator Q?
Radiation Hardened Power MOSFET; Published: 17-Sep-2003; DatasheetVersion: 28-Nov-2001; PackageVersion: 16-Sep-2002; PackageReference: SMD-0.5; Publisher: Altium Limited; PackageDescription: SM; 3 Leadless Terminals; Body 10.28 x 7.64 x 3.06 mm (LxWxH); ComponentLink1Description: Manufacturer Link; ComponentLink1URL: http://www.irf.com/; ComponentLink2Description: Datasheet; ComponentLink2URL: http://www.irf.com/product-info/datasheets/data/IRHNJ597230.pdf
footprint SMD-0.5 (SM; 3 Leadless Terminals; Body 10.28 x 7.64 x 3.06 mm (LxWxH))
pins: 1 D, 2 G, 3 S

## IRHQ7110
designator Q?
Radiation Hardened HEXFET Power MOSFET; Note: Pins 4, 7, 11, 14, 18, 21, 25, 28 are NC pins and are not drawn.; Published: 17-Sep-2003; DatasheetVersion: 27-Dec-2000; PackageVersion: Aug-2001; PackageReference: LCC-28; Publisher: Altium Limited; PackageDescription: Leadless Chip Carrier; 28 Terminals; Body 11.4 x 11.4 mm; ComponentLink1Description: Manufacturer Link; ComponentLink1URL: http://www.irf.com/; ComponentLink2Description: Datasheet; ComponentLink2URL: http://www.irf.com/product-info/datasheets/data/IRHQ7110.pdf
footprint LCC-28 (Leadless Chip Carrier; 28 Terminals; Body 11.4 x 11.4 mm)
part A pins: 1 G, 2 S, 3 S, 5 D, 6 D
part B pins: 8 G, 9 S, 10 S, 12 D, 13 D
part C pins: 15 G, 16 S, 17 S, 19 D, 20 D
part D pins: 22 G, 23 S, 24 S, 26 D, 27 D
part A text: 5, 6; 2, 3
part B text: 12, 13; 9, 10
part C text: 19, 20; 16, 17
part D text: 26, 27; 23, 24

## IRHQ9110
designator Q?
Radiation Hardened HEXFET Power MOSFET; Note: Pins 4, 7, 11, 14, 18, 21, 25, 28 are NC pins and are not drawn.; Published: 17-Sep-2003; DatasheetVersion: 27-Dec-2000; PackageVersion: Aug-2001; PackageReference: LCC-28; Publisher: Altium Limited; PackageDescription: Leadless Chip Carrier; 28 Terminals; Body 11.4 x 11.4 mm; ComponentLink1Description: Manufacturer Link; ComponentLink1URL: http://www.irf.com/; ComponentLink2Description: Datasheet; ComponentLink2URL: http://www.irf.com/product-info/datasheets/data/IRHQ9110.pdf
footprint LCC-28 (Leadless Chip Carrier; 28 Terminals; Body 11.4 x 11.4 mm)
simulation model IRHQ9110 (SUBCKT)
part A pins: 1 G, 2 S, 3 S, 5 D, 6 D
part B pins: 8 G, 9 S, 10 S, 12 D, 13 D
part C pins: 15 G, 16 S, 17 S, 19 D, 20 D
part D pins: 22 G, 23 S, 24 S, 26 D, 27 D
part A text: 5, 6; 2, 3
part B text: 12, 13; 9, 10
part C text: 19, 20; 16, 17
part D text: 26, 27; 23, 24

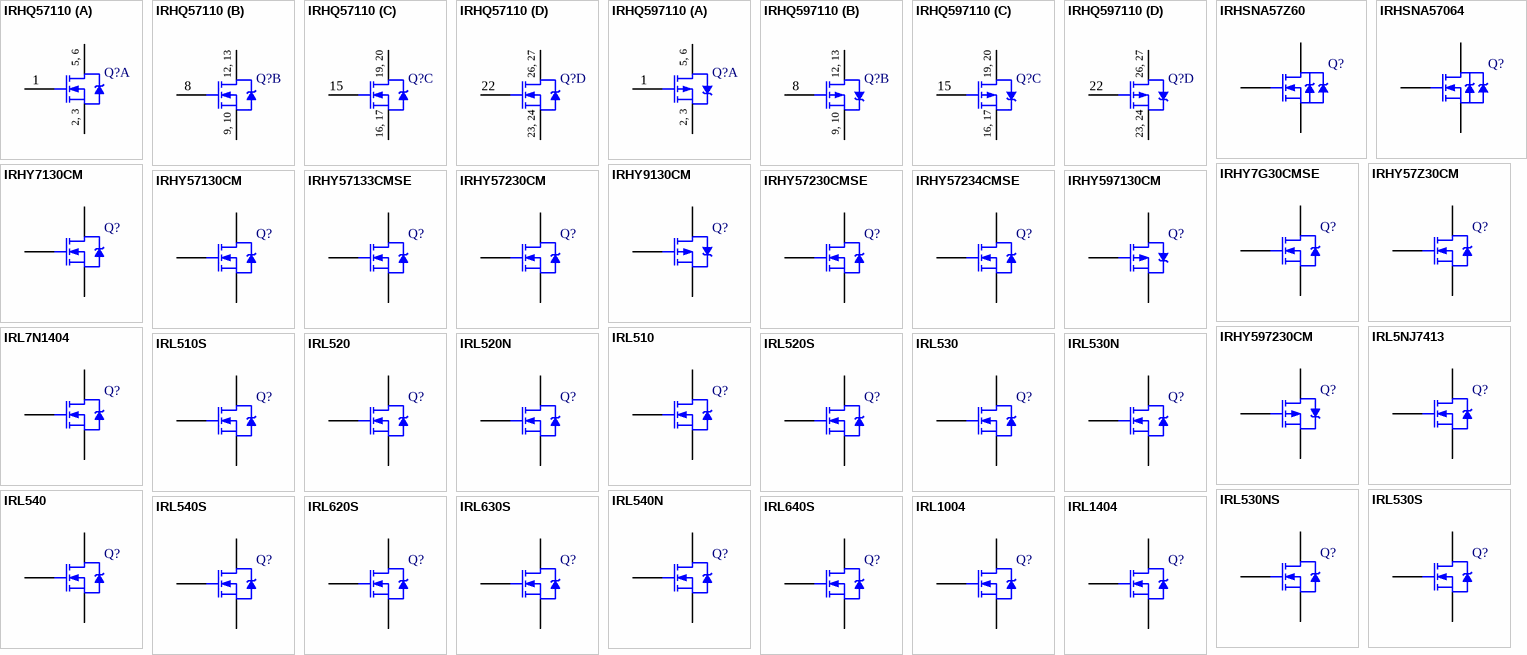
[diagram p18: symbols IRHQ57110 to IRL1404]

## IRHQ57110
designator Q?
Radiation Hardened HEXFET Power MOSFET; Note: Pins 4, 7, 11, 14, 18, 21, 25, 28 are NC pins and are not drawn.; Published: 17-Sep-2003; DatasheetVersion: Aug-2001; PackageVersion: Aug-2001; PackageReference: LCC-28; Publisher: Altium Limited; PackageDescription: Leadless Chip Carrier; 28 Terminals; Body 11.4 x 11.4 mm; ComponentLink1Description: Manufacturer Link; ComponentLink1URL: http://www.irf.com/; ComponentLink2Description: Datasheet; ComponentLink2URL: http://www.irf.com/product-info/datasheets/data/IRHQ57110.pdf
footprint LCC-28 (Leadless Chip Carrier; 28 Terminals; Body 11.4 x 11.4 mm)
part A pins: 1 G, 2 S, 3 S, 5 D, 6 D
part B pins: 8 G, 9 S, 10 S, 12 D, 13 D
part C pins: 15 G, 16 S, 17 S, 19 D, 20 D
part D pins: 22 G, 23 S, 24 S, 26 D, 27 D
part A text: 5, 6; 2, 3
part B text: 12, 13; 9, 10
part C text: 19, 20; 16, 17
part D text: 26, 27; 23, 24

## IRHQ597110
designator Q?
Radiation Hardened HEXFET Power MOSFET; Note: Pins 4, 7, 11, 14, 18, 21, 25, 28 are NC pins and are not drawn.; Published: 17-Sep-2003; DatasheetVersion: 3-May-2001; PackageVersion: Aug-2001; PackageReference: LCC-28; Publisher: Altium Limited; PackageDescription: Leadless Chip Carrier; 28 Terminals; Body 11.4 x 11.4 mm; ComponentLink1Description: Manufacturer Link; ComponentLink1URL: http://www.irf.com/; ComponentLink2Description: Datasheet; ComponentLink2URL: http://www.irf.com/product-info/datasheets/data/IRHQ597110.pdf
footprint LCC-28 (Leadless Chip Carrier; 28 Terminals; Body 11.4 x 11.4 mm)
part A pins: 1 G, 2 S, 3 S, 5 D, 6 D
part B pins: 8 G, 9 S, 10 S, 12 D, 13 D
part C pins: 15 G, 16 S, 17 S, 19 D, 20 D
part D pins: 22 G, 23 S, 24 S, 26 D, 27 D
part A text: 5, 6; 2, 3
part B text: 12, 13; 9, 10
part C text: 19, 20; 16, 17
part D text: 26, 27; 23, 24

## IRHSNA57Z60
designator Q?
Radiation Hardened Power MOSFET; Published: 17-Sep-2003; DatasheetVersion: 6-Sep-2002; PackageVersion: 18-Feb-02; PackageReference: SMD-2; Publisher: Altium Limited; PackageDescription: SM; 3 Leadless Terminals; Body 17.65 x 13.46 x 3.58 mm (LxWxH); ComponentLink1Description: Manufacturer Link; ComponentLink1URL: http://www.irf.com/; ComponentLink2Description: Datasheet; ComponentLink2URL: http://www.irf.com/product-info/datasheets/data/IRFM150.pdf
footprint SMD-2 (SM; 3 Leadless Terminals; Body 17.65 x 13.46 x 3.58 mm (LxWxH))
simulation model IRHSNA57Z60 (SUBCKT)
pins: 1 D, 2 G, 3 S

## IRHSNA57064
designator Q?
Radiation Hardened Power MOSFET; Published: 17-Sep-2003; DatasheetVersion: 30-Jul-2002; PackageVersion: 18-Feb-02; PackageReference: SMD-2; Publisher: Altium Limited; PackageDescription: SM; 3 Leadless Terminals; Body 17.65 x 13.46 x 3.58 mm (LxWxH); ComponentLink1Description: Manufacturer Link; ComponentLink1URL: http://www.irf.com/; ComponentLink2Description: Datasheet; ComponentLink2URL: http://www.irf.com/product-info/datasheets/data/IRFM150.pdf
footprint SMD-2 (SM; 3 Leadless Terminals; Body 17.65 x 13.46 x 3.58 mm (LxWxH))
simulation model IRHSNA57064 (SUBCKT)
pins: 1 D, 2 G, 3 S

## IRHY7G30CMSE
designator Q?
Radiation Hardened HEXFET Power MOSFET; Published: 17-Sep-2003; DatasheetVersion: 24-Jul-2001; PackageVersion: Aug-2001; PackageReference: TO-257AA; Publisher: Altium Limited; PackageDescription: TO, Thru-Hole, Vertical, Heatsink Mounted; 3 In-Line Leads; Pitch 2.54 mm; ComponentLink1Description: Manufacturer Link; ComponentLink1URL: http://www.irf.com/; ComponentLink2Description: Datasheet; ComponentLink2URL: http://www.irf.com/product-info/datasheets/data/IRFPS3810.pdf
footprint TO-257AA (TO, Thru-Hole, Vertical, Heatsink Mounted; 3 In-Line Leads; Pitch 2.54 mm)
pins: 1 D, 2 S, 3 G

## IRHY57Z30CM
designator Q?
Radiation Hardened Power MOSFET; Published: 17-Sep-2003; DatasheetVersion: 17-Apr-2001; PackageVersion: Aug-2001; PackageReference: TO-257AA; Publisher: Altium Limited; PackageDescription: TO, Thru-Hole, Vertical, Heatsink Mounted; 3 In-Line Leads; Pitch 2.54 mm; ComponentLink1Description: Manufacturer Link; ComponentLink1URL: http://www.irf.com/; ComponentLink2Description: Datasheet; ComponentLink2URL: http://www.irf.com/product-info/datasheets/data/IRFP3703.pdf
footprint TO-257AA (TO, Thru-Hole, Vertical, Heatsink Mounted; 3 In-Line Leads; Pitch 2.54 mm)
simulation model IRHY57Z30CM (SUBCKT)
pins: 1 D, 2 S, 3 G

## IRHY7130CM
designator Q?
Radiation Hardened HEXFET Power MOSFET; Published: 17-Sep-2003; DatasheetVersion: 17-Dec-2001; PackageVersion: Aug-2001; PackageReference: TO-257AA; Publisher: Altium Limited; PackageDescription: TO, Thru-Hole, Vertical, Heatsink Mounted; 3 In-Line Leads; Pitch 2.54 mm; ComponentLink1Description: Manufacturer Link; ComponentLink1URL: http://www.irf.com/; ComponentLink2Description: Datasheet; ComponentLink2URL: http://www.irf.com/product-info/datasheets/data/IRFPC50A.pdf
footprint TO-257AA (TO, Thru-Hole, Vertical, Heatsink Mounted; 3 In-Line Leads; Pitch 2.54 mm)
simulation model IRHY7130CM (SUBCKT)
pins: 1 D, 2 S, 3 G